# Altium footprint library 8021AH.PcbLib: 1 footprints
Each footprint in its own frame and in the unit in brackets; x right, y up, seen from the top. Pads: shape width x height; smd on the part's side, far side on the other; paste and mask are expansions set on the pad; w line width, h text height; cw(c..) or ccw(c..) is an arc to the next point about the centre after c.
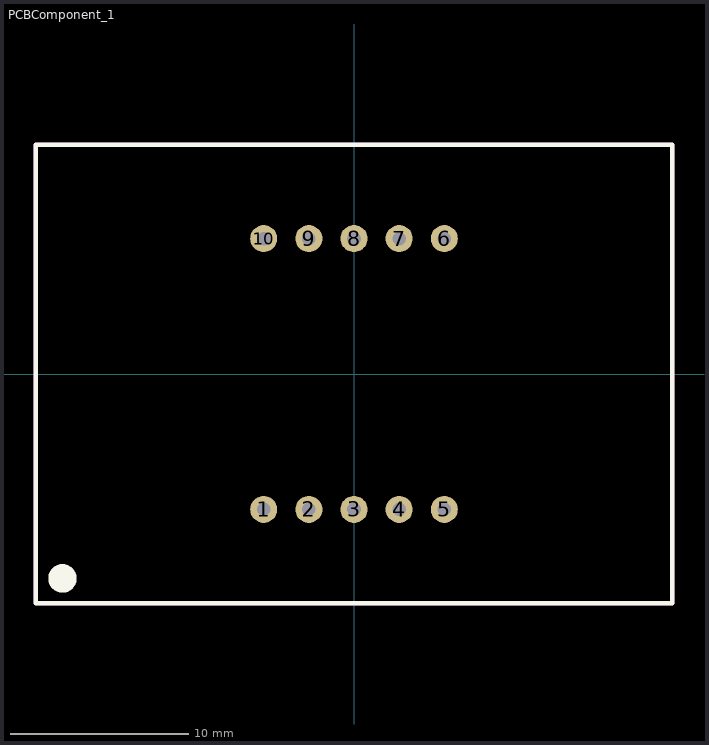
[diagram p0: the footprint, top view; thin cyan lines are the x and y axes]

## PCBComponent_1 [mil]
pads (10):
  round 60 hole 30: 1(-200,-300) 2(-100,-300) 3(0,-300) 4(100,-300) 5(200,-300) 6(200,300) 7(100,300) 8(0,300) 9(-100,300) 10(-200,300)
Top Overlay:
  circle w39.37: c-645.67,-452.76 r11.81
  lines w10: -704.72,-507.87 704.72,-507.87 704.72,507.87 -704.72,507.87 -704.72,-507.87
Mechanical 1:
  lines w10: -704.72,-507.87 704.72,-507.87 704.72,507.87 -704.72,507.87 -704.72,-507.87